# Altium schematic symbol library O 16,0-JO32-B-1V3-1-T1-LF.SchLib: 1 symbol
Pins are listed as number, name and electrical type; pins without a type are passive.

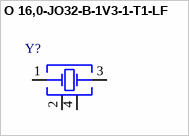
[diagram p0: symbol O 16,0-JO32-B-1V3-1-T1-LF]

## O 16,0-JO32-B-1V3-1-T1-LF
designator Y?
= Description; Manufacturer: Jauch; Manufacturer Part Number: O 16,0-JO32-B-1V3-1-T1-LF; Supplier 1: Digi-Key; RoHS: No; Category: Oscillators; Stock 1: 1364; Pricing 1: 1=0.90000, 10=0.79700, 50=0.74500, 100=0.65840 (USD); Supplier Part Number 1: 1908-O160-JO32-B-1V3-1-T1-LFCT-ND
pins: 1 Crystal, 2 GND, 3 Crystal, 4 GND